# Altium integrated library Infineon_Microcontroller.IntLib: 721 symbols (part 24 of 66)
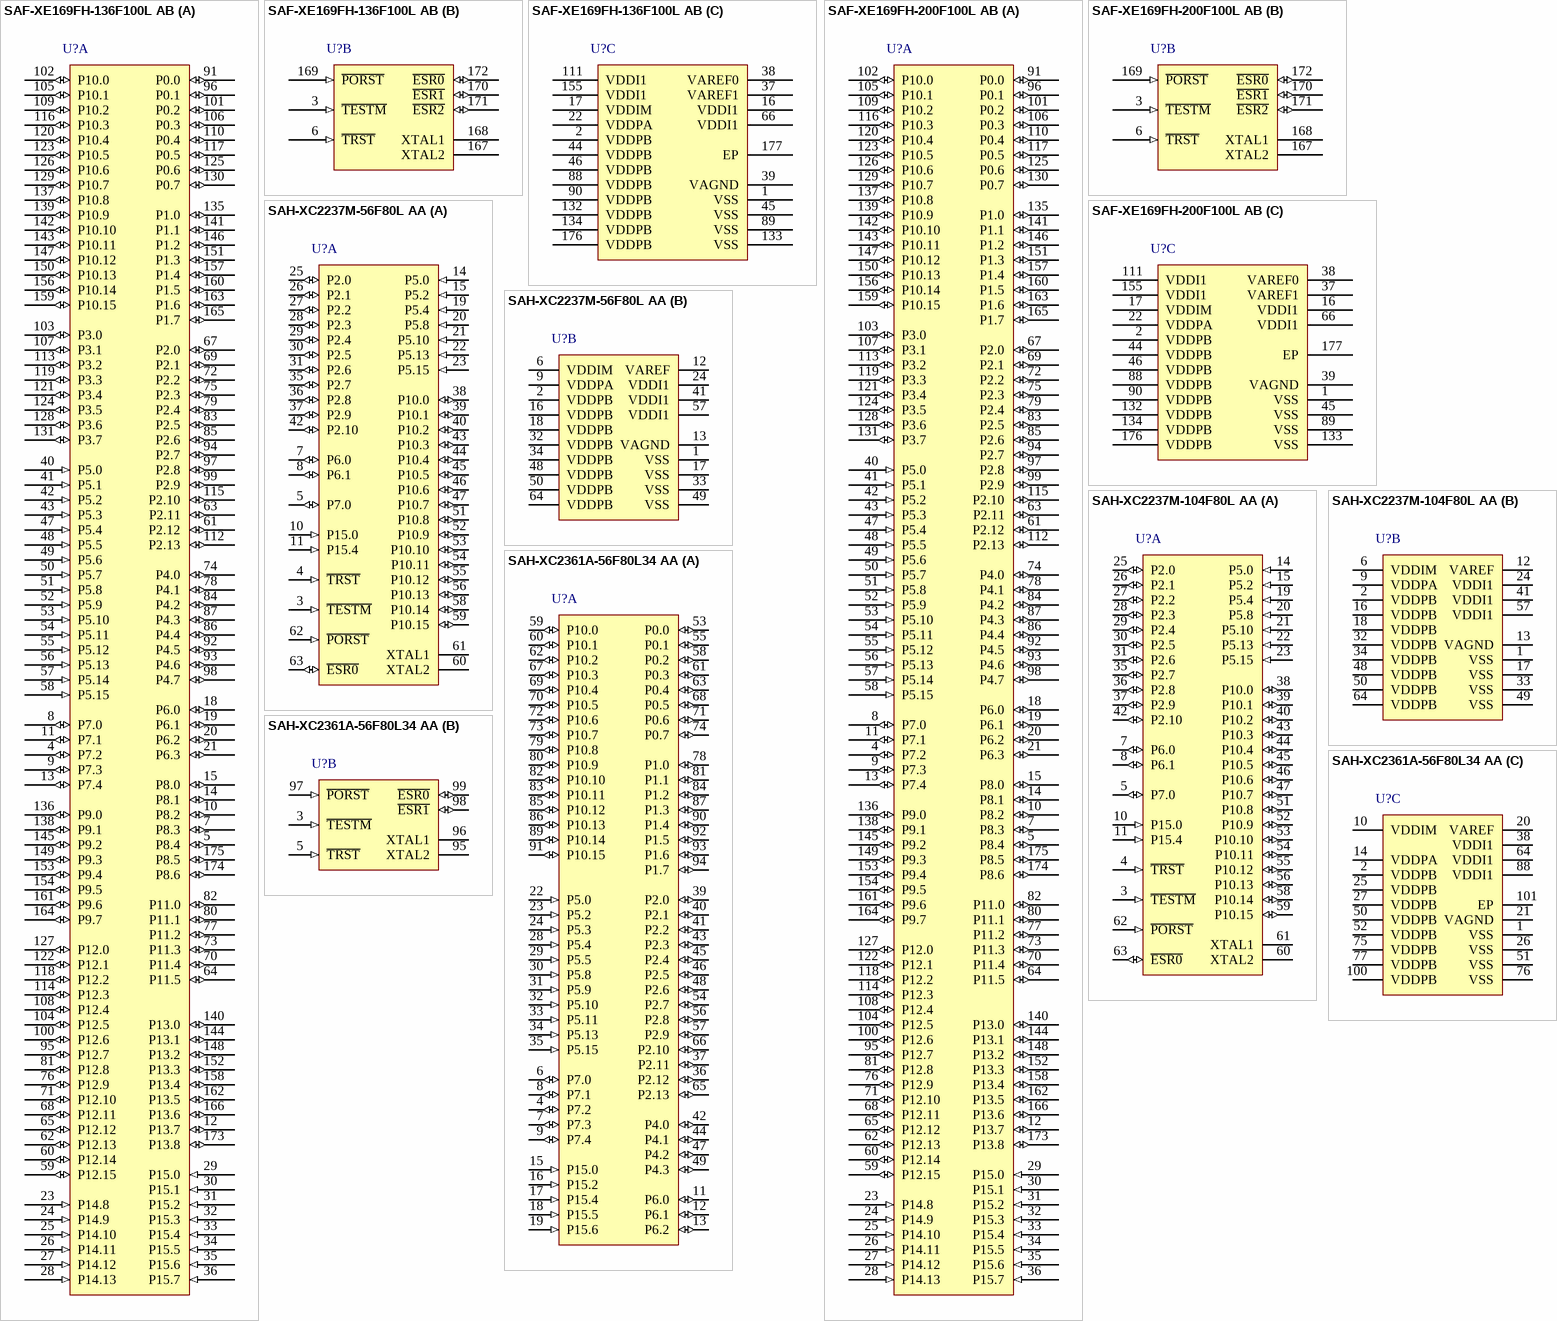
[diagram p141: symbols SAF-XE169FH-136F100L AB to SAH-XC2361A-56F80L34 AA]

## SAH-XC2237M-104F80L AA
designator U?
80 MHz XC2200 MCU with 832 KByte Program Memory, 50 KByte SRAM, 3 V, 5.5 V, -40 to 110 degC, PG-LQFP-64, Reel, Green; Manufacturer: Infineon; PartNumber: SAH-XC2237M-104F80L AA; A / D input lines (incl. FADC): 9; CAN Nodes: 6; Digital I/O Lines: 38; DMA Channels: 8; DSP functionality (e.g MDU/MAC): TRUE; FlexRay TM: FALSE; Instruction width [bits]: 16/32; Max Clock Frequency: 80 MHz; Number of ADC Modules: 2; Power Modes: 3; Timed I/O Pins (PWM-Ch,CAPCOM): up to 22; Timer / Counter: 17; Type of Memory: Flash; Type of Serial I/O Interfaces: SPI(6), LIN, UART, I2C, I2S; DatasheetVersion: Rev. 2.1; PackageVersion: Jun-08; PackageReference: PG-LQFP-64-13; PackageDescription: 64-Pin Plastic (Green) Low Profile Quad Flat Package, Body 10 x 10 mm, Pitch 0.5 mm; Supplier 1: Mouser; Supplier Part Number 1: 726-XC2237M104F80LAA; Supplier 2: Digi-Key; Supplier Part Number 2: SAH-XC2237M-104F80L AA-ND; E2PROM Emulation (Data-Flash): TRUE; External Bus interface: TRUE; Green: TRUE; Halogen-free: TRUE; I/O Operation Voltages: 3 V, 5.5 V; On-chip clock generation: TRUE; On-chip Voltage Regulator: TRUE; Oscillator Watchdog: TRUE; Packing: Reel; Program Memory: 832 KByte; Real Time Clock (RTC): TRUE; Serial I/O Interfaces: 6; SRAM (incl. Cache): 50 KByte; Watchdog Timer: TRUE; Mounting Technology: Surface Mount; ComponentLink1Description: Manufacturer URL; ComponentLink1URL: http://www.infineon.com/; ComponentLink2Description: Datasheet; ComponentLink2URL: http://www.infineon.com/dgdl/xc223xm_ds_v2.1_2011_07.pdf?folderId=db3a3043132679fb01133eb909a307c3&fileId=db3a304320d39d590120f67e4b706a36; ComponentLink3Description: Package Specification; ComponentLink3URL: http://www.infineon.com/dgdl/PG-LQFP-64-4%2C-5%2C-13-Package_Overview.pdf?folderId=db3a30431a5c32f2011a8ca6115b5cf2&fileId=db3a30431a5c32f2011a8cb1baf95d11
footprint INF-PG-LQFP-64-13_N (QFP, 64-Leads, Body 10x10mm, Pitch 0.5mm, IPC Medium Density)
footprint INF-PG-LQFP-64-13_L (QFP, 64-Leads, Body 10x10mm, Pitch 0.5mm, IPC High Density)
footprint INF-PG-LQFP-64-13_M (QFP, 64-Leads, Body 10x10mm, Pitch 0.5mm, IPC Low Density)
part A pins: 3 ~{TESTM} (in) "Testmode Enable", 4 ~{TRST} (in) "Test-System Reset Input", 5 P7.0 (io), 7 P6.0 (io), 8 P6.1 (io), 10 P15.0 (in), 11 P15.4 (in), 14 P5.0 (in), 15 P5.2 (in), 19 P5.4 (in), 20 P5.8 (in), 21 P5.10 (in), 22 P5.13 (in), 23 P5.15 (in), 25 P2.0 (io), 26 P2.1 (io), 27 P2.2 (io), 28 P2.3 (io), 29 P2.4 (io), 30 P2.5 (io), 31 P2.6 (io), 35 P2.7 (io), 36 P2.8 (io), 37 P2.9 (io), 38 P10.0 (io), 39 P10.1 (io), 40 P10.2 (io), 42 P2.10 (io), 43 P10.3 (io), 44 P10.4 (io), 45 P10.5 (io), 46 P10.6 (io), 47 P10.7 (io), 51 P10.8 (io), 52 P10.9 (io), 53 P10.10 (io), 54 P10.11 (io), 55 P10.12 (io), 56 P10.13 (io), 58 P10.14 (io), 59 P10.15 (io), 60 XTAL2 "Crystal Oscillator Amplifier Output", 61 XTAL1, 62 ~{PORST} (in) "Power On Reset Input", 63 ~{ESR0} (io)
part B pins: 1 VSS (power) "Digital Ground", 2 VDDPB (power) "Digital Pad Supply Voltage for Domain B", 6 VDDIM (power) "Digital Core Supply Voltage for Domain M", 9 VDDPA (power) "Digital Pad Supply Voltage for Domain A", 12 VAREF (power) "Reference Voltage for A/D Converters ADC0/1", 13 VAGND (power) "Reference Ground for A/D Converters ADC0/1", 16 VDDPB (power) "Digital Pad Supply Voltage for Domain B", 17 VSS (power) "Digital Ground", 18 VDDPB (power) "Digital Pad Supply Voltage for Domain B", 24 VDDI1 (power) "Digital Core Supply Voltage for Domain 1", 32 VDDPB (power) "Digital Pad Supply Voltage for Domain B", 33 VSS (power) "Digital Ground", 34 VDDPB (power) "Digital Pad Supply Voltage for Domain B", 41 VDDI1 (power) "Digital Core Supply Voltage for Domain 1", 48 VDDPB (power) "Digital Pad Supply Voltage for Domain B", 49 VSS (power) "Digital Ground", 50 VDDPB (power) "Digital Pad Supply Voltage for Domain B", 57 VDDI1 (power) "Digital Core Supply Voltage for Domain 1", 64 VDDPB (power) "Digital Pad Supply Voltage for Domain B"

## SAH-XC2361A-56F80L34 AA
designator U?
80 MHz XC2300 MCU with 448 KByte Program Memory, 34 KByte SRAM, 3 V, 5.5 V, -40 to 110 degC, PG-LQFP-100, Reel, Green; Manufacturer: Infineon; PartNumber: SAH-XC2361A-56F80L34 AA; A / D input lines (incl. FADC): 16; CAN Nodes: 2; Digital I/O Lines: 76; DMA Channels: 8; DSP functionality (e.g MDU/MAC): TRUE; FlexRay TM: FALSE; Instruction width [bits]: 16/32; Max Clock Frequency: 80 MHz; Serial I/O Interfaces: 6; Timed I/O Pins (PWM-Ch,CAPCOM): 24; Timer / Counter: 17; Type of Memory: Flash; Type of Serial I/O Interfaces: SPI(1), LIN, UART, I2C, I2S; DatasheetVersion: Rev. 2.11; PackageVersion: Mar-13; PackageReference: PG-LQFP-100-8; PackageDescription: 100-Pin Plastic (Green) Low Profile Quad Flat Package, Body 14 x 14 mm, Pitch 0.5 mm; E2PROM Emulation (Data-Flash): TRUE; External Bus interface: TRUE; Green: TRUE; Halogen-free: TRUE; I/O Operation Voltages: 3 V, 5.5 V; LIN BSL loader (for fast Flash programming): TRUE; Number of ADC Modules: 2; On-chip clock generation: TRUE; On-chip Voltage Regulator: TRUE; Oscillator Watchdog: TRUE; Packing: Reel; Power Modes: 2; Program Memory: 448 KByte; Real Time Clock (RTC): TRUE; SRAM (incl. Cache): 34 KByte; Watchdog Timer: TRUE; Mounting Technology: Surface Mount; ComponentLink1Description: Manufacturer URL; ComponentLink1URL: http://www.infineon.com/; ComponentLink2Description: Datasheet; ComponentLink2URL: http://www.infineon.com/dgdl/xc236xa_ds_v2+11_2011_11.pdf?folderId=db3a304412b407950112b409d4b00386&fileId=db3a3043353fdc160135582d1eee7bd4; ComponentLink3Description: Package Specification; ComponentLink3URL: http://www.infineon.com/dgdl/PG-LQFP-100-3%2C-4%2C-8%2C-11-Package_Overview.pdf?folderId=db3a30431a5c32f2011a90c5ac475987&fileId=db3a30431a5c32f2011a9129fcd359d1
footprint INF-PG-LQFP-100-8-6200X6200TP_N (QFP, 100-Leads, Body 14x14mm, Pitch 0.5mm, Thermal Pad 6.2x6.2mm, IPC Medium Density)
footprint INF-PG-LQFP-100-8-6200X6200TP_L (QFP, 100-Leads, Body 14x14mm, Pitch 0.5mm, Thermal Pad 6.2x6.2mm, IPC High Density)
footprint INF-PG-LQFP-100-8-6200X6200TP_M (QFP, 100-Leads, Body 14x14mm, Pitch 0.5mm, Thermal Pad 6.2x6.2mm, IPC Low Density)
part A pins: 4 P7.2 (io), 6 P7.0 (io), 7 P7.3 (io), 8 P7.1 (io), 9 P7.4 (io), 11 P6.0 (io), 12 P6.1 (io), 13 P6.2 (io), 15 P15.0 (in), 16 P15.2 (in), 17 P15.4 (in), 18 P15.5 (in), 19 P15.6 (in), 22 P5.0 (in), 23 P5.2 (in), 24 P5.3 (in), 28 P5.4 (in), 29 P5.5 (in), 30 P5.8 (in), 31 P5.9 (in), 32 P5.10 (in), 33 P5.11 (in), 34 P5.13 (in), 35 P5.15 (in), 36 P2.12 (io), 37 P2.11 (io), 39 P2.0 (io), 40 P2.1 (io), 41 P2.2 (io), 42 P4.0 (io), 43 P2.3 (io), 44 P4.1 (io), 45 P2.4 (io), 46 P2.5 (io), 47 P4.2 (io), 48 P2.6 (io), 49 P4.3 (io), 53 P0.0 (io), 54 P2.7 (io), 55 P0.1 (io), 56 P2.8 (io), 57 P2.9 (io), 58 P0.2 (io), 59 P10.0 (io), 60 P10.1 (io), 61 P0.3 (io), 62 P10.2 (io), 63 P0.4 (io), 65 P2.13 (io), 66 P2.10 (io), 67 P10.3 (io), 68 P0.5 (io), 69 P10.4 (io), 70 P10.5 (io), 71 P0.6 (io), 72 P10.6 (io), 73 P10.7 (io), 74 P0.7 (io), 78 P1.0 (io), 79 P10.8 (io), 80 P10.9 (io), 81 P1.1 (io), 82 P10.10 (io), 83 P10.11 (io), 84 P1.2 (io), 85 P10.12 (io), 86 P10.13 (io), 87 P1.3 (io), 89 P10.14 (io), 90 P1.4 (io), 91 P10.15 (io), 92 P1.5 (io), 93 P1.6 (io), 94 P1.7 (io)
part B pins: 3 ~{TESTM} (in) "Testmode Enable", 5 ~{TRST} (in) "Test-System Reset Input", 95 XTAL2 "Crystal Oscillator Amplifier Output", 96 XTAL1, 97 ~{PORST} (in) "Power On Reset Input", 98 ~{ESR1} (io), 99 ~{ESR0} (io)
part C pins: 1 VSS (power) "Digital Ground.", 2 VDDPB (power) "Digital Pad Supply Voltage for Domain B.", 10 VDDIM (power) "Digital Core Supply Voltage for Domain M", 14 VDDPA (power) "Digital Pad Supply Voltage for Domain A.", 20 VAREF (power) "Reference Voltage for A/D Converters ADC0/1", 21 VAGND (power) "Reference Ground for A/D Converters ADC0/1", 25 VDDPB (power) "Digital Pad Supply Voltage for Domain B.", 26 VSS (power) "Digital Ground.", 27 VDDPB (power) "Digital Pad Supply Voltage for Domain B.", 38 VDDI1 (power) "Digital Core Supply Voltage for Domain 1", 50 VDDPB (power) "Digital Pad Supply Voltage for Domain B.", 51 VSS (power) "Digital Ground.", 52 VDDPB (power) "Digital Pad Supply Voltage for Domain B.", 64 VDDI1 (power) "Digital Core Supply Voltage for Domain 1", 75 VDDPB (power) "Digital Pad Supply Voltage for Domain B.", 76 VSS (power) "Digital Ground.", 77 VDDPB (power) "Digital Pad Supply Voltage for Domain B.", 88 VDDI1 (power) "Digital Core Supply Voltage for Domain 1", 100 VDDPB (power) "Digital Pad Supply Voltage for Domain B.", 101 EP (power)

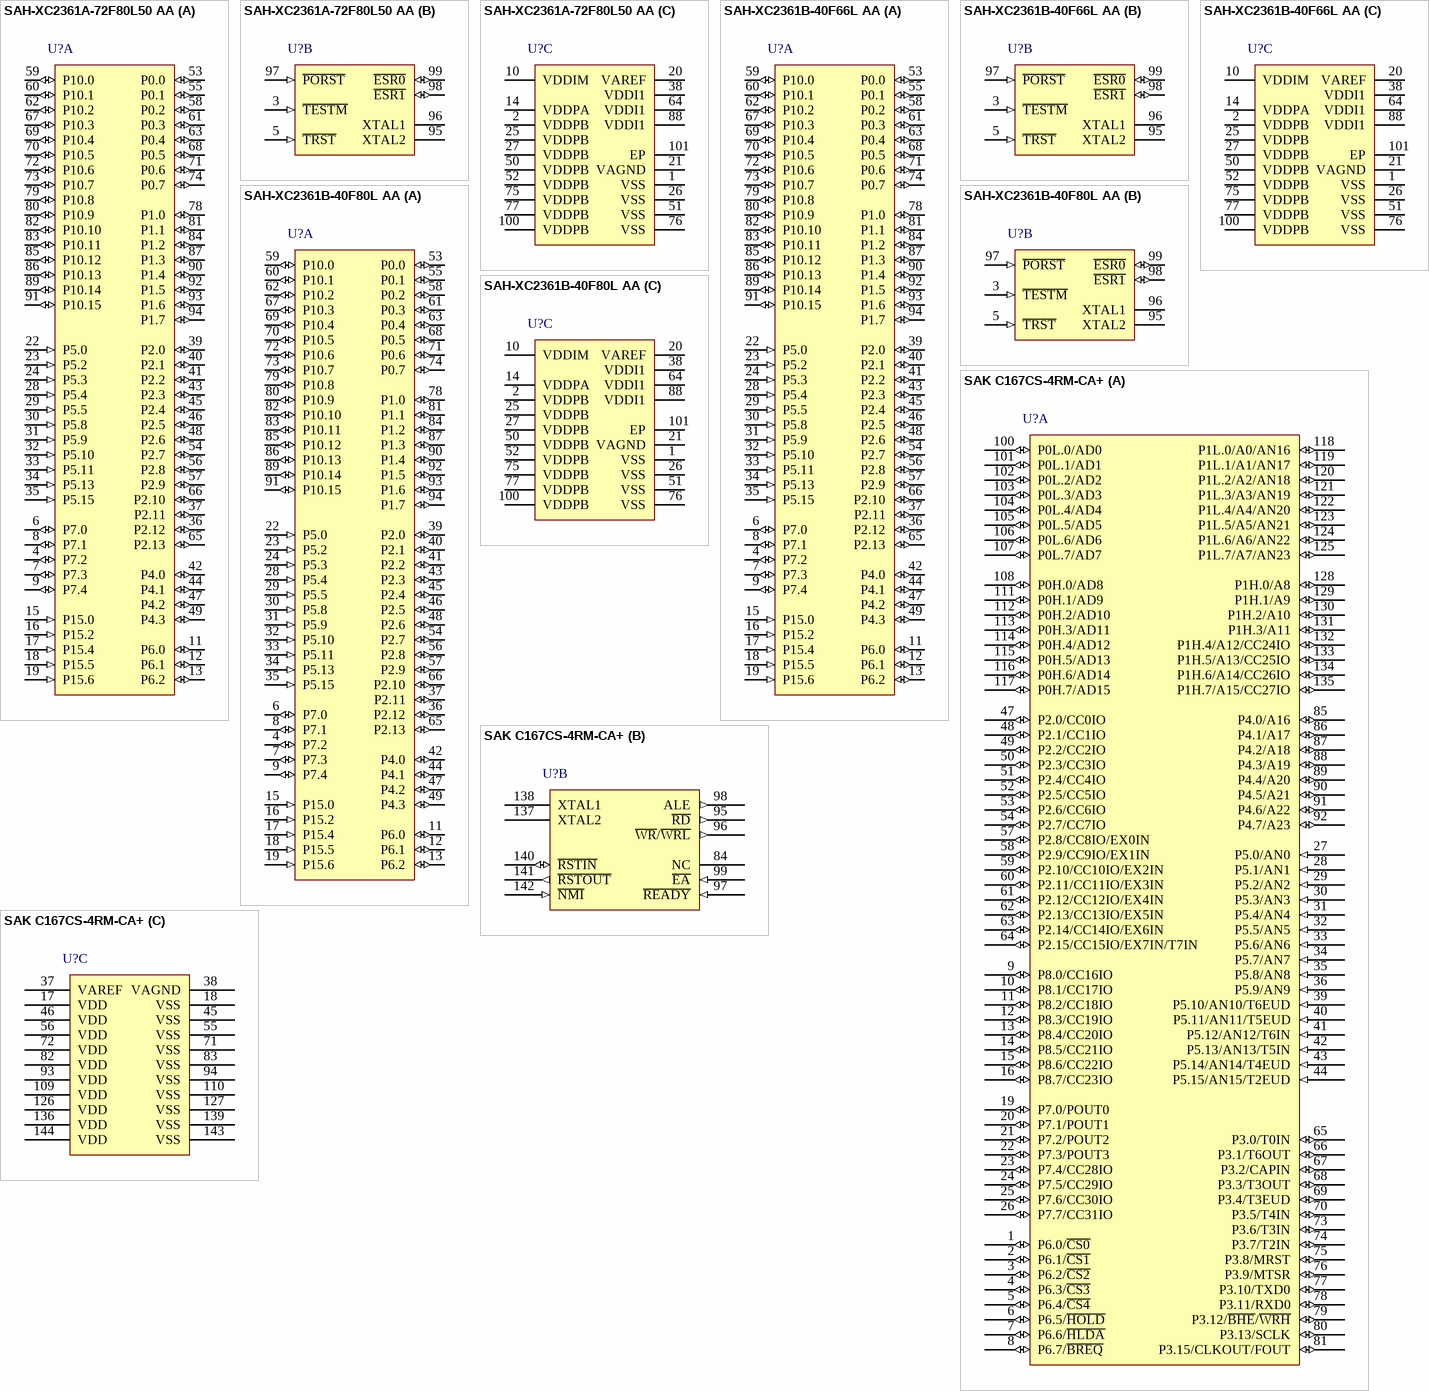
[diagram p40: symbols SAH-XC2361A-72F80L50 AA to SAK C167CS-4RM-CA+]

## SAH-XC2361A-72F80L50 AA
designator U?
80 MHz XC2300 MCU with 576 KByte Program Memory, 50 KByte SRAM, 3 V, 5.5 V, -40 to 110 degC, PG-LQFP-100, Reel, Green; Manufacturer: Infineon; PartNumber: SAH-XC2361A-72F80L50 AA; A / D input lines (incl. FADC): 16; CAN Nodes: 2; Digital I/O Lines: 76; DMA Channels: 8; DSP functionality (e.g MDU/MAC): TRUE; FlexRay TM: FALSE; Instruction width [bits]: 16/32; Max Clock Frequency: 80 MHz; Serial I/O Interfaces: 6; Timed I/O Pins (PWM-Ch,CAPCOM): 24; Timer / Counter: 17; Type of Memory: Flash; Type of Serial I/O Interfaces: SPI(1), LIN, UART, I2C, I2S; DatasheetVersion: Rev. 2.11; PackageVersion: Mar-13; PackageReference: PG-LQFP-100-8; PackageDescription: 100-Pin Plastic (Green) Low Profile Quad Flat Package, Body 14 x 14 mm, Pitch 0.5 mm; E2PROM Emulation (Data-Flash): TRUE; External Bus interface: TRUE; Green: TRUE; Halogen-free: TRUE; I/O Operation Voltages: 3 V, 5.5 V; LIN BSL loader (for fast Flash programming): TRUE; Number of ADC Modules: 2; On-chip clock generation: TRUE; On-chip Voltage Regulator: TRUE; Oscillator Watchdog: TRUE; Packing: Reel; Power Modes: 2; Program Memory: 576 KByte; Real Time Clock (RTC): TRUE; SRAM (incl. Cache): 50 KByte; Watchdog Timer: TRUE; Mounting Technology: Surface Mount; ComponentLink1Description: Manufacturer URL; ComponentLink1URL: http://www.infineon.com/; ComponentLink2Description: Datasheet; ComponentLink2URL: http://www.infineon.com/dgdl/xc236xa_ds_v2+11_2011_11.pdf?folderId=db3a304412b407950112b409d4b00386&fileId=db3a3043353fdc160135582d1eee7bd4; ComponentLink3Description: Package Specification; ComponentLink3URL: http://www.infineon.com/dgdl/PG-LQFP-100-3%2C-4%2C-8%2C-11-Package_Overview.pdf?folderId=db3a30431a5c32f2011a90c5ac475987&fileId=db3a30431a5c32f2011a9129fcd359d1
footprint INF-PG-LQFP-100-8-6200X6200TP_N (QFP, 100-Leads, Body 14x14mm, Pitch 0.5mm, Thermal Pad 6.2x6.2mm, IPC Medium Density)
footprint INF-PG-LQFP-100-8-6200X6200TP_L (QFP, 100-Leads, Body 14x14mm, Pitch 0.5mm, Thermal Pad 6.2x6.2mm, IPC High Density)
footprint INF-PG-LQFP-100-8-6200X6200TP_M (QFP, 100-Leads, Body 14x14mm, Pitch 0.5mm, Thermal Pad 6.2x6.2mm, IPC Low Density)
part A pins: 4 P7.2 (io), 6 P7.0 (io), 7 P7.3 (io), 8 P7.1 (io), 9 P7.4 (io), 11 P6.0 (io), 12 P6.1 (io), 13 P6.2 (io), 15 P15.0 (in), 16 P15.2 (in), 17 P15.4 (in), 18 P15.5 (in), 19 P15.6 (in), 22 P5.0 (in), 23 P5.2 (in), 24 P5.3 (in), 28 P5.4 (in), 29 P5.5 (in), 30 P5.8 (in), 31 P5.9 (in), 32 P5.10 (in), 33 P5.11 (in), 34 P5.13 (in), 35 P5.15 (in), 36 P2.12 (io), 37 P2.11 (io), 39 P2.0 (io), 40 P2.1 (io), 41 P2.2 (io), 42 P4.0 (io), 43 P2.3 (io), 44 P4.1 (io), 45 P2.4 (io), 46 P2.5 (io), 47 P4.2 (io), 48 P2.6 (io), 49 P4.3 (io), 53 P0.0 (io), 54 P2.7 (io), 55 P0.1 (io), 56 P2.8 (io), 57 P2.9 (io), 58 P0.2 (io), 59 P10.0 (io), 60 P10.1 (io), 61 P0.3 (io), 62 P10.2 (io), 63 P0.4 (io), 65 P2.13 (io), 66 P2.10 (io), 67 P10.3 (io), 68 P0.5 (io), 69 P10.4 (io), 70 P10.5 (io), 71 P0.6 (io), 72 P10.6 (io), 73 P10.7 (io), 74 P0.7 (io), 78 P1.0 (io), 79 P10.8 (io), 80 P10.9 (io), 81 P1.1 (io), 82 P10.10 (io), 83 P10.11 (io), 84 P1.2 (io), 85 P10.12 (io), 86 P10.13 (io), 87 P1.3 (io), 89 P10.14 (io), 90 P1.4 (io), 91 P10.15 (io), 92 P1.5 (io), 93 P1.6 (io), 94 P1.7 (io)
part B pins: 3 ~{TESTM} (in) "Testmode Enable", 5 ~{TRST} (in) "Test-System Reset Input", 95 XTAL2 "Crystal Oscillator Amplifier Output", 96 XTAL1, 97 ~{PORST} (in) "Power On Reset Input", 98 ~{ESR1} (io), 99 ~{ESR0} (io)
part C pins: 1 VSS (power) "Digital Ground.", 2 VDDPB (power) "Digital Pad Supply Voltage for Domain B.", 10 VDDIM (power) "Digital Core Supply Voltage for Domain M", 14 VDDPA (power) "Digital Pad Supply Voltage for Domain A.", 20 VAREF (power) "Reference Voltage for A/D Converters ADC0/1", 21 VAGND (power) "Reference Ground for A/D Converters ADC0/1", 25 VDDPB (power) "Digital Pad Supply Voltage for Domain B.", 26 VSS (power) "Digital Ground.", 27 VDDPB (power) "Digital Pad Supply Voltage for Domain B.", 38 VDDI1 (power) "Digital Core Supply Voltage for Domain 1", 50 VDDPB (power) "Digital Pad Supply Voltage for Domain B.", 51 VSS (power) "Digital Ground.", 52 VDDPB (power) "Digital Pad Supply Voltage for Domain B.", 64 VDDI1 (power) "Digital Core Supply Voltage for Domain 1", 75 VDDPB (power) "Digital Pad Supply Voltage for Domain B.", 76 VSS (power) "Digital Ground.", 77 VDDPB (power) "Digital Pad Supply Voltage for Domain B.", 88 VDDI1 (power) "Digital Core Supply Voltage for Domain 1", 100 VDDPB (power) "Digital Pad Supply Voltage for Domain B.", 101 EP (power)

## SAH-XC2361B-40F66L AA
designator U?
66 MHz XC2300 MCU with 320 KByte Program Memory, 34 KByte SRAM, 3 V, 5.5 V, -40 to 105 degC, PG-LQFP-100, Reel, Green; Manufacturer: Infineon; PartNumber: SAH-XC2361B-40F66L AA; A / D input lines (incl. FADC): 16; CAN Nodes: 2; Digital I/O Lines: 76; DMA Channels: 8; DSP functionality (e.g MDU/MAC): TRUE; FlexRay TM: FALSE; Instruction width [bits]: 16/32; Max Clock Frequency: 66 MHz; Serial I/O Interfaces: 6; Timed I/O Pins (PWM-Ch,CAPCOM): 24; Timer / Counter: 13; Type of Memory: Flash; Type of Serial I/O Interfaces: SPI(1), LIN, UART, I2C, I2S; DatasheetVersion: Rev. 1.4; PackageVersion: Mar-13; PackageReference: PG-LQFP-100-8; PackageDescription: 100-Pin Plastic (Green) Low Profile Quad Flat Package, Body 14 x 14 mm, Pitch 0.5 mm; Supplier 1: Mouser; Supplier Part Number 1: 726-SAHXC2361B40F66L; E2PROM Emulation (Data-Flash): TRUE; External Bus interface: TRUE; Green: TRUE; Halogen-free: TRUE; I/O Operation Voltages: 3 V, 5.5 V; LIN BSL loader (for fast Flash programming): TRUE; Number of ADC Modules: 2; On-chip clock generation: TRUE; On-chip Voltage Regulator: TRUE; Oscillator Watchdog: TRUE; Packing: Reel; Power Modes: 2; Program Memory: 320 KByte; Real Time Clock (RTC): TRUE; SRAM (incl. Cache): 34 KByte; Watchdog Timer: TRUE; Mounting Technology: Surface Mount; ComponentLink1Description: Manufacturer URL; ComponentLink1URL: http://www.infineon.com/; ComponentLink2Description: Datasheet; ComponentLink2URL: http://www.infineon.com/dgdl/xc236xb_ds_v1_3_2011_07.pdf?folderId=db3a30431375fb1a0113864e0cc701b6&fileId=db3a304324fc7f9a01251206dca11981; ComponentLink3Description: Package Specification; ComponentLink3URL: http://www.infineon.com/dgdl/PG-LQFP-100-3%2C-4%2C-8%2C-11-Package_Overview.pdf?folderId=db3a30431a5c32f2011a90c5ac475987&fileId=db3a30431a5c32f2011a9129fcd359d1
footprint INF-PG-LQFP-100-8-6200X6200TP_N (QFP, 100-Leads, Body 14x14mm, Pitch 0.5mm, Thermal Pad 6.2x6.2mm, IPC Medium Density)
footprint INF-PG-LQFP-100-8-6200X6200TP_L (QFP, 100-Leads, Body 14x14mm, Pitch 0.5mm, Thermal Pad 6.2x6.2mm, IPC High Density)
footprint INF-PG-LQFP-100-8-6200X6200TP_M (QFP, 100-Leads, Body 14x14mm, Pitch 0.5mm, Thermal Pad 6.2x6.2mm, IPC Low Density)
part A pins: 4 P7.2 (io), 6 P7.0 (io), 7 P7.3 (io), 8 P7.1 (io), 9 P7.4 (io), 11 P6.0 (io), 12 P6.1 (io), 13 P6.2 (io), 15 P15.0 (in), 16 P15.2 (in), 17 P15.4 (in), 18 P15.5 (in), 19 P15.6 (in), 22 P5.0 (in), 23 P5.2 (in), 24 P5.3 (in), 28 P5.4 (in), 29 P5.5 (in), 30 P5.8 (in), 31 P5.9 (in), 32 P5.10 (in), 33 P5.11 (in), 34 P5.13 (in), 35 P5.15 (in), 36 P2.12 (io), 37 P2.11 (io), 39 P2.0 (io), 40 P2.1 (io), 41 P2.2 (io), 42 P4.0 (io), 43 P2.3 (io), 44 P4.1 (io), 45 P2.4 (io), 46 P2.5 (io), 47 P4.2 (io), 48 P2.6 (io), 49 P4.3 (io), 53 P0.0 (io), 54 P2.7 (io), 55 P0.1 (io), 56 P2.8 (io), 57 P2.9 (io), 58 P0.2 (io), 59 P10.0 (io), 60 P10.1 (io), 61 P0.3 (io), 62 P10.2 (io), 63 P0.4 (io), 65 P2.13 (io), 66 P2.10 (io), 67 P10.3 (io), 68 P0.5 (io), 69 P10.4 (io), 70 P10.5 (io), 71 P0.6 (io), 72 P10.6 (io), 73 P10.7 (io), 74 P0.7 (io), 78 P1.0 (io), 79 P10.8 (io), 80 P10.9 (io), 81 P1.1 (io), 82 P10.10 (io), 83 P10.11 (io), 84 P1.2 (io), 85 P10.12 (io), 86 P10.13 (io), 87 P1.3 (io), 89 P10.14 (io), 90 P1.4 (io), 91 P10.15 (io), 92 P1.5 (io), 93 P1.6 (io), 94 P1.7 (io)
part B pins: 3 ~{TESTM} (in) "Testmode Enable", 5 ~{TRST} (in) "Test-System Reset Input", 95 XTAL2 "Crystal Oscillator Amplifier Output", 96 XTAL1, 97 ~{PORST} (in) "Power On Reset Input", 98 ~{ESR1} (io), 99 ~{ESR0} (io)
part C pins: 1 VSS (power) "Digital Ground.", 2 VDDPB (power) "Digital Pad Supply Voltage for Domain B.", 10 VDDIM (power) "Digital Core Supply Voltage for Domain M", 14 VDDPA (power) "Digital Pad Supply Voltage for Domain A.", 20 VAREF (power) "Reference Voltage for A/D Converters ADC0/1", 21 VAGND (power) "Reference Ground for A/D Converters ADC0/1", 25 VDDPB (power) "Digital Pad Supply Voltage for Domain B.", 26 VSS (power) "Digital Ground.", 27 VDDPB (power) "Digital Pad Supply Voltage for Domain B.", 38 VDDI1 (power) "Digital Core Supply Voltage for Domain 1", 50 VDDPB (power) "Digital Pad Supply Voltage for Domain B.", 51 VSS (power) "Digital Ground.", 52 VDDPB (power) "Digital Pad Supply Voltage for Domain B.", 64 VDDI1 (power) "Digital Core Supply Voltage for Domain 1", 75 VDDPB (power) "Digital Pad Supply Voltage for Domain B.", 76 VSS (power) "Digital Ground.", 77 VDDPB (power) "Digital Pad Supply Voltage for Domain B.", 88 VDDI1 (power) "Digital Core Supply Voltage for Domain 1", 100 VDDPB (power) "Digital Pad Supply Voltage for Domain B.", 101 EP (power)

## SAH-XC2361B-40F80L AA
designator U?
80 MHz XC2300 MCU with 320 KByte Program Memory, 34 KByte SRAM, 3 V, 5.5 V, -40 to 110 degC, PG-LQFP-100, Reel, Green; Manufacturer: Infineon; PartNumber: SAH-XC2361B-40F80L AA; A / D input lines (incl. FADC): 16; CAN Nodes: 2; Digital I/O Lines: 76; DMA Channels: 8; DSP functionality (e.g MDU/MAC): TRUE; FlexRay TM: FALSE; Instruction width [bits]: 16/32; Max Clock Frequency: 80 MHz; Serial I/O Interfaces: 6; Timed I/O Pins (PWM-Ch,CAPCOM): 24; Timer / Counter: 13; Type of Memory: Flash; Type of Serial I/O Interfaces: SPI(1), LIN, UART, I2C, I2S; DatasheetVersion: Rev. 1.4; PackageVersion: Mar-13; PackageReference: PG-LQFP-100-8; PackageDescription: 100-Pin Plastic (Green) Low Profile Quad Flat Package, Body 14 x 14 mm, Pitch 0.5 mm; Supplier 1: Mouser; Supplier Part Number 1: 726-SAHXC2361B40F80L; Supplier 2: Digi-Key; Supplier Part Number 2: SAH-XC2361B-40F80L AA-ND; E2PROM Emulation (Data-Flash): TRUE; External Bus interface: TRUE; Green: TRUE; Halogen-free: TRUE; I/O Operation Voltages: 3 V, 5.5 V; LIN BSL loader (for fast Flash programming): TRUE; Number of ADC Modules: 2; On-chip clock generation: TRUE; On-chip Voltage Regulator: TRUE; Oscillator Watchdog: TRUE; Packing: Reel; Power Modes: 2; Program Memory: 320 KByte; Real Time Clock (RTC): TRUE; SRAM (incl. Cache): 34 KByte; Watchdog Timer: TRUE; Mounting Technology: Surface Mount; ComponentLink1Description: Manufacturer URL; ComponentLink1URL: http://www.infineon.com/; ComponentLink2Description: Datasheet; ComponentLink2URL: http://www.infineon.com/dgdl/xc236xb_ds_v1_3_2011_07.pdf?folderId=db3a30431375fb1a0113864e0cc701b6&fileId=db3a304324fc7f9a01251206dca11981; ComponentLink3Description: Package Specification; ComponentLink3URL: http://www.infineon.com/dgdl/PG-LQFP-100-3%2C-4%2C-8%2C-11-Package_Overview.pdf?folderId=db3a30431a5c32f2011a90c5ac475987&fileId=db3a30431a5c32f2011a9129fcd359d1
footprint INF-PG-LQFP-100-8-6200X6200TP_N (QFP, 100-Leads, Body 14x14mm, Pitch 0.5mm, Thermal Pad 6.2x6.2mm, IPC Medium Density)
footprint INF-PG-LQFP-100-8-6200X6200TP_L (QFP, 100-Leads, Body 14x14mm, Pitch 0.5mm, Thermal Pad 6.2x6.2mm, IPC High Density)
footprint INF-PG-LQFP-100-8-6200X6200TP_M (QFP, 100-Leads, Body 14x14mm, Pitch 0.5mm, Thermal Pad 6.2x6.2mm, IPC Low Density)
part A pins: 4 P7.2 (io), 6 P7.0 (io), 7 P7.3 (io), 8 P7.1 (io), 9 P7.4 (io), 11 P6.0 (io), 12 P6.1 (io), 13 P6.2 (io), 15 P15.0 (in), 16 P15.2 (in), 17 P15.4 (in), 18 P15.5 (in), 19 P15.6 (in), 22 P5.0 (in), 23 P5.2 (in), 24 P5.3 (in), 28 P5.4 (in), 29 P5.5 (in), 30 P5.8 (in), 31 P5.9 (in), 32 P5.10 (in), 33 P5.11 (in), 34 P5.13 (in), 35 P5.15 (in), 36 P2.12 (io), 37 P2.11 (io), 39 P2.0 (io), 40 P2.1 (io), 41 P2.2 (io), 42 P4.0 (io), 43 P2.3 (io), 44 P4.1 (io), 45 P2.4 (io), 46 P2.5 (io), 47 P4.2 (io), 48 P2.6 (io), 49 P4.3 (io), 53 P0.0 (io), 54 P2.7 (io), 55 P0.1 (io), 56 P2.8 (io), 57 P2.9 (io), 58 P0.2 (io), 59 P10.0 (io), 60 P10.1 (io), 61 P0.3 (io), 62 P10.2 (io), 63 P0.4 (io), 65 P2.13 (io), 66 P2.10 (io), 67 P10.3 (io), 68 P0.5 (io), 69 P10.4 (io), 70 P10.5 (io), 71 P0.6 (io), 72 P10.6 (io), 73 P10.7 (io), 74 P0.7 (io), 78 P1.0 (io), 79 P10.8 (io), 80 P10.9 (io), 81 P1.1 (io), 82 P10.10 (io), 83 P10.11 (io), 84 P1.2 (io), 85 P10.12 (io), 86 P10.13 (io), 87 P1.3 (io), 89 P10.14 (io), 90 P1.4 (io), 91 P10.15 (io), 92 P1.5 (io), 93 P1.6 (io), 94 P1.7 (io)
part B pins: 3 ~{TESTM} (in) "Testmode Enable", 5 ~{TRST} (in) "Test-System Reset Input", 95 XTAL2 "Crystal Oscillator Amplifier Output", 96 XTAL1, 97 ~{PORST} (in) "Power On Reset Input", 98 ~{ESR1} (io), 99 ~{ESR0} (io)
part C pins: 1 VSS (power) "Digital Ground.", 2 VDDPB (power) "Digital Pad Supply Voltage for Domain B.", 10 VDDIM (power) "Digital Core Supply Voltage for Domain M", 14 VDDPA (power) "Digital Pad Supply Voltage for Domain A.", 20 VAREF (power) "Reference Voltage for A/D Converters ADC0/1", 21 VAGND (power) "Reference Ground for A/D Converters ADC0/1", 25 VDDPB (power) "Digital Pad Supply Voltage for Domain B.", 26 VSS (power) "Digital Ground.", 27 VDDPB (power) "Digital Pad Supply Voltage for Domain B.", 38 VDDI1 (power) "Digital Core Supply Voltage for Domain 1", 50 VDDPB (power) "Digital Pad Supply Voltage for Domain B.", 51 VSS (power) "Digital Ground.", 52 VDDPB (power) "Digital Pad Supply Voltage for Domain B.", 64 VDDI1 (power) "Digital Core Supply Voltage for Domain 1", 75 VDDPB (power) "Digital Pad Supply Voltage for Domain B.", 76 VSS (power) "Digital Ground.", 77 VDDPB (power) "Digital Pad Supply Voltage for Domain B.", 88 VDDI1 (power) "Digital Core Supply Voltage for Domain 1", 100 VDDPB (power) "Digital Pad Supply Voltage for Domain B.", 101 EP (power)

## SAK C167CS-4RM-CA+
designator U?
25 MHz C166 MCU with 32 KByte Program Memory, 11 KByte SRAM, 5 V, -40 to 125 degC, PG-MQFP-144, Reel, Green; Manufacturer: Infineon; PartNumber: SAK C167CS-4RM-CA+; A / D input lines (incl. FADC): 24; CAN Nodes: 2; Digital I/O Lines: 111; DMA Channels: 0; DSP functionality (e.g MDU/MAC): TRUE; I/O Operation Voltages: 5 V; Instruction width [bits]: 16; Max Clock Frequency: 25 MHz; Number of ADC Modules: 1; Power Modes: 3; Real Time Clock (RTC): FALSE; Timed I/O Pins (PWM-Ch,CAPCOM): 36; Timer / Counter: 9; Type of Memory: ROM; Type of Serial I/O Interfaces: USART(1), SSC(1); DatasheetVersion: Rev. 2.2; PackageVersion: V2.2, 08/2001; PackageReference: P-MQFP-144-6; PackageDescription: 144-Pin Plastic Metric Quad Flat Package, Body 28 x 28 mm, Pitch 0.65 mm; External Bus interface: TRUE; Green: TRUE; Oscillator Watchdog: TRUE; Program Memory: 32 KByte; Serial I/O Interfaces: 2; SRAM (incl. Cache): 11 KByte; Watchdog Timer: TRUE; Mounting Technology: Surface Mount; ComponentLink1Description: Manufacturer URL; ComponentLink1URL: http://www.infineon.com/; ComponentLink2Description: Datasheet; ComponentLink2URL: http://www.infineon.com/dgdl/c167cs4r_ds_v2.2_2001_08.pdf?folderId=db3a304412b407950112b408e8c90004&fileId=db3a304412b407950112b435a34b634c; ComponentLink3Description: Package Specification; ComponentLink3URL: http://www.infineon.com/dgdl/c167cs4r_ds_v2.2_2001_08.pdf?folderId=db3a304412b407950112b408e8c90004&fileId=db3a304412b407950112b435a34b634c
footprint INF-P-MQFP-144-6_N (QFP, 144-Leads, Body 28x28mm, Pitch 0.65mm, IPC Medium Density)
footprint INF-P-MQFP-144-6_L (QFP, 144-Leads, Body 28x28mm, Pitch 0.65mm, IPC High Density)
footprint INF-P-MQFP-144-6_M (QFP, 144-Leads, Body 28x28mm, Pitch 0.65mm, IPC Low Density)
part A pins: 1 P6.0/~{CS0} (io), 2 P6.1/~{CS1} (io), 3 P6.2/~{CS2} (io), 4 P6.3/~{CS3} (io), 5 P6.4/~{CS4} (io), 6 P6.5/~{HOLD} (io), 7 P6.6/~{HLDA} (io), 8 P6.7/~{BREQ} (io), 9 P8.0/CC16IO (io), 10 P8.1/CC17IO (io), 11 P8.2/CC18IO (io), 12 P8.3/CC19IO (io), 13 P8.4/CC20IO (io), 14 P8.5/CC21IO (io), 15 P8.6/CC22IO (io), 16 P8.7/CC23IO (io), 19 P7.0/POUT0 (io), 20 P7.1/POUT1 (io), 21 P7.2/POUT2 (io), 22 P7.3/POUT3 (io), 23 P7.4/CC28IO (io), 24 P7.5/CC29IO (io), 25 P7.6/CC30IO (io), 26 P7.7/CC31IO (io), 27 P5.0/AN0 (in), 28 P5.1/AN1 (in), 29 P5.2/AN2 (in), 30 P5.3/AN3 (in), 31 P5.4/AN4 (in), 32 P5.5/AN5 (in), 33 P5.6/AN6 (in), 34 P5.7/AN7 (in), 35 P5.8/AN8 (in), 36 P5.9/AN9 (in), 39 P5.10/AN10/T6EUD (in), 40 P5.11/AN11/T5EUD (in), 41 P5.12/AN12/T6IN (in), 42 P5.13/AN13/T5IN (in), 43 P5.14/AN14/T4EUD (in), 44 P5.15/AN15/T2EUD (in), 47 P2.0/CC0IO (io), 48 P2.1/CC1IO (io), 49 P2.2/CC2IO (io), 50 P2.3/CC3IO (io), 51 P2.4/CC4IO (io), 52 P2.5/CC5IO (io), 53 P2.6/CC6IO (io), 54 P2.7/CC7IO (io), 57 P2.8/CC8IO/EX0IN (io), 58 P2.9/CC9IO/EX1IN (io), 59 P2.10/CC10IO/EX2IN (io), 60 P2.11/CC11IO/EX3IN (io), 61 P2.12/CC12IO/EX4IN (io), 62 P2.13/CC13IO/EX5IN (io), 63 P2.14/CC14IO/EX6IN (io), 64 P2.15/CC15IO/EX7IN/T7IN (io), 65 P3.0/T0IN (io), 66 P3.1/T6OUT (io), 67 P3.2/CAPIN (io), 68 P3.3/T3OUT (io), 69 P3.4/T3EUD (io), 70 P3.5/T4IN (io), 73 P3.6/T3IN (io), 74 P3.7/T2IN (io), 75 P3.8/MRST (io), 76 P3.9/MTSR (io), 77 P3.10/TXD0 (io), 78 P3.11/RXD0 (io), 79 P3.12/~{BHE}/~{WRH} (io), 80 P3.13/SCLK (io), 81 P3.15/CLKOUT/FOUT (io), 85 P4.0/A16 (io), 86 P4.1/A17 (io), 87 P4.2/A18 (io), 88 P4.3/A19 (io), 89 P4.4/A20 (io), 90 P4.5/A21 (io), 91 P4.6/A22 (io), 92 P4.7/A23 (io), 100 P0L.0/AD0 (io), 101 P0L.1/AD1 (io), 102 P0L.2/AD2 (io), 103 P0L.3/AD3 (io), 104 P0L.4/AD4 (io), 105 P0L.5/AD5 (io), 106 P0L.6/AD6 (io), 107 P0L.7/AD7 (io), 108 P0H.0/AD8 (io), 111 P0H.1/AD9 (io), 112 P0H.2/AD10 (io), 113 P0H.3/AD11 (io), 114 P0H.4/AD12 (io), 115 P0H.5/AD13 (io), 116 P0H.6/AD14 (io), 117 P0H.7/AD15 (io), 118 P1L.0/A0/AN16 (io), 119 P1L.1/A1/AN17 (io), 120 P1L.2/A2/AN18 (io), 121 P1L.3/A3/AN19 (io), 122 P1L.4/A4/AN20 (io), 123 P1L.5/A5/AN21 (io), 124 P1L.6/A6/AN22 (io), 125 P1L.7/A7/AN23 (io), 128 P1H.0/A8 (io), 129 P1H.1/A9 (io), 130 P1H.2/A10 (io), 131 P1H.3/A11 (io), 132 P1H.4/A12/CC24IO (io), 133 P1H.5/A13/CC25IO (io), 134 P1H.6/A14/CC26IO (io), 135 P1H.7/A15/CC27IO (io)
part B pins: 84 NC "This pin is not connected in the C167CS.No connection to the PCB is required.", 95 ~{RD} (out) "External Memory Read Strobe. R\D\ is activated for every external instruction or data read access.", 96 ~{WR}/~{WRL} (out) "External Memory Write Strobe. In W\R\-mode this pin is activated for every external data write access. In W\R\L\-mode this pin is activated for low byte data write accesses on a 16-bit bus, and for every data write access on (See Datasheet)", 97 ~{READY} (in) "Ready Input. When the Ready function is enabled, a high level at this pin during an external memory access will force the insertion of memory cycle time waitstates until the pin returns to a low level. An internal pullup (See Datasheet)", 98 ALE (out) "Address Latch Enable Output. Can be used for latching the address into external memory or an address latch in the multiplexed bus modes.", 99 ~{EA} (in) "External Access Enable pin. A low level at this pin during and after Reset forces the C161CS to begin instruction execution out of external memory. A high level forces execution out of the internal program memory.", 137 XTAL2 "Output of the oscillator amplifier circuit.", 138 XTAL1 "Input to the oscillator amplifier and input to the internal clock generator", 140 ~{RSTIN} (io) "Reset Input with Schmitt-Trigger characteristics. A low level at this pin while the oscillator is running resets the C167CS.An internal pullup resistor permits power-on reset using only a capacitor connected to VSS.", 141 ~{RSTOUT} (out) "Internal Reset Indication Output. This pin is set to a low level when the part is executing either a hardware-, a software- or a watchdog timer reset. R\S\T\O\U\T\ remains low until the EINIT (end of initialization) (See Datasheet)", 142 ~{NMI} (in) "Non-Maskable Interrupt Input. A high to low transition at this pin causes the CPU to vector to the NMI trap routine. When the PWRDN (power down) instruction is executed, the N\M\I\ pin must be low in order to force the (See Datasheet)"
part C pins: 17 VDD (power) "Digital Supply Voltage: + 5 V or + 3 V during normal operation and idle mode. >= 2.5 V during power down mode.", 18 VSS (power) "Digital Ground.", 37 VAREF (power) "Reference voltage for the A/D converter.", 38 VAGND (power) "Reference ground for the A/D converter.", 45 VSS (power) "Digital Ground.", 46 VDD (power) "Digital Supply Voltage: + 5 V or + 3 V during normal operation and idle mode. >= 2.5 V during power down mode.", 55 VSS (power) "Digital Ground.", 56 VDD (power) "Digital Supply Voltage: + 5 V or + 3 V during normal operation and idle mode. >= 2.5 V during power down mode.", 71 VSS (power) "Digital Ground.", 72 VDD (power) "Digital Supply Voltage: + 5 V or + 3 V during normal operation and idle mode. >= 2.5 V during power down mode.", 82 VDD (power) "Digital Supply Voltage: + 5 V or + 3 V during normal operation and idle mode. >= 2.5 V during power down mode.", 83 VSS (power) "Digital Ground.", 93 VDD (power) "Digital Supply Voltage: + 5 V or + 3 V during normal operation and idle mode. >= 2.5 V during power down mode.", 94 VSS (power) "Digital Ground.", 109 VDD (power) "Digital Supply Voltage: + 5 V or + 3 V during normal operation and idle mode. >= 2.5 V during power down mode.", 110 VSS (power) "Digital Ground.", 126 VDD (power) "Digital Supply Voltage: + 5 V or + 3 V during normal operation and idle mode. >= 2.5 V during power down mode.", 127 VSS (power) "Digital Ground.", 136 VDD (power) "Digital Supply Voltage: + 5 V or + 3 V during normal operation and idle mode. >= 2.5 V during power down mode.", 139 VSS (power) "Digital Ground.", 143 VSS (power) "Digital Ground.", 144 VDD (power) "Digital Supply Voltage: + 5 V or + 3 V during normal operation and idle mode. >= 2.5 V during power down mode."

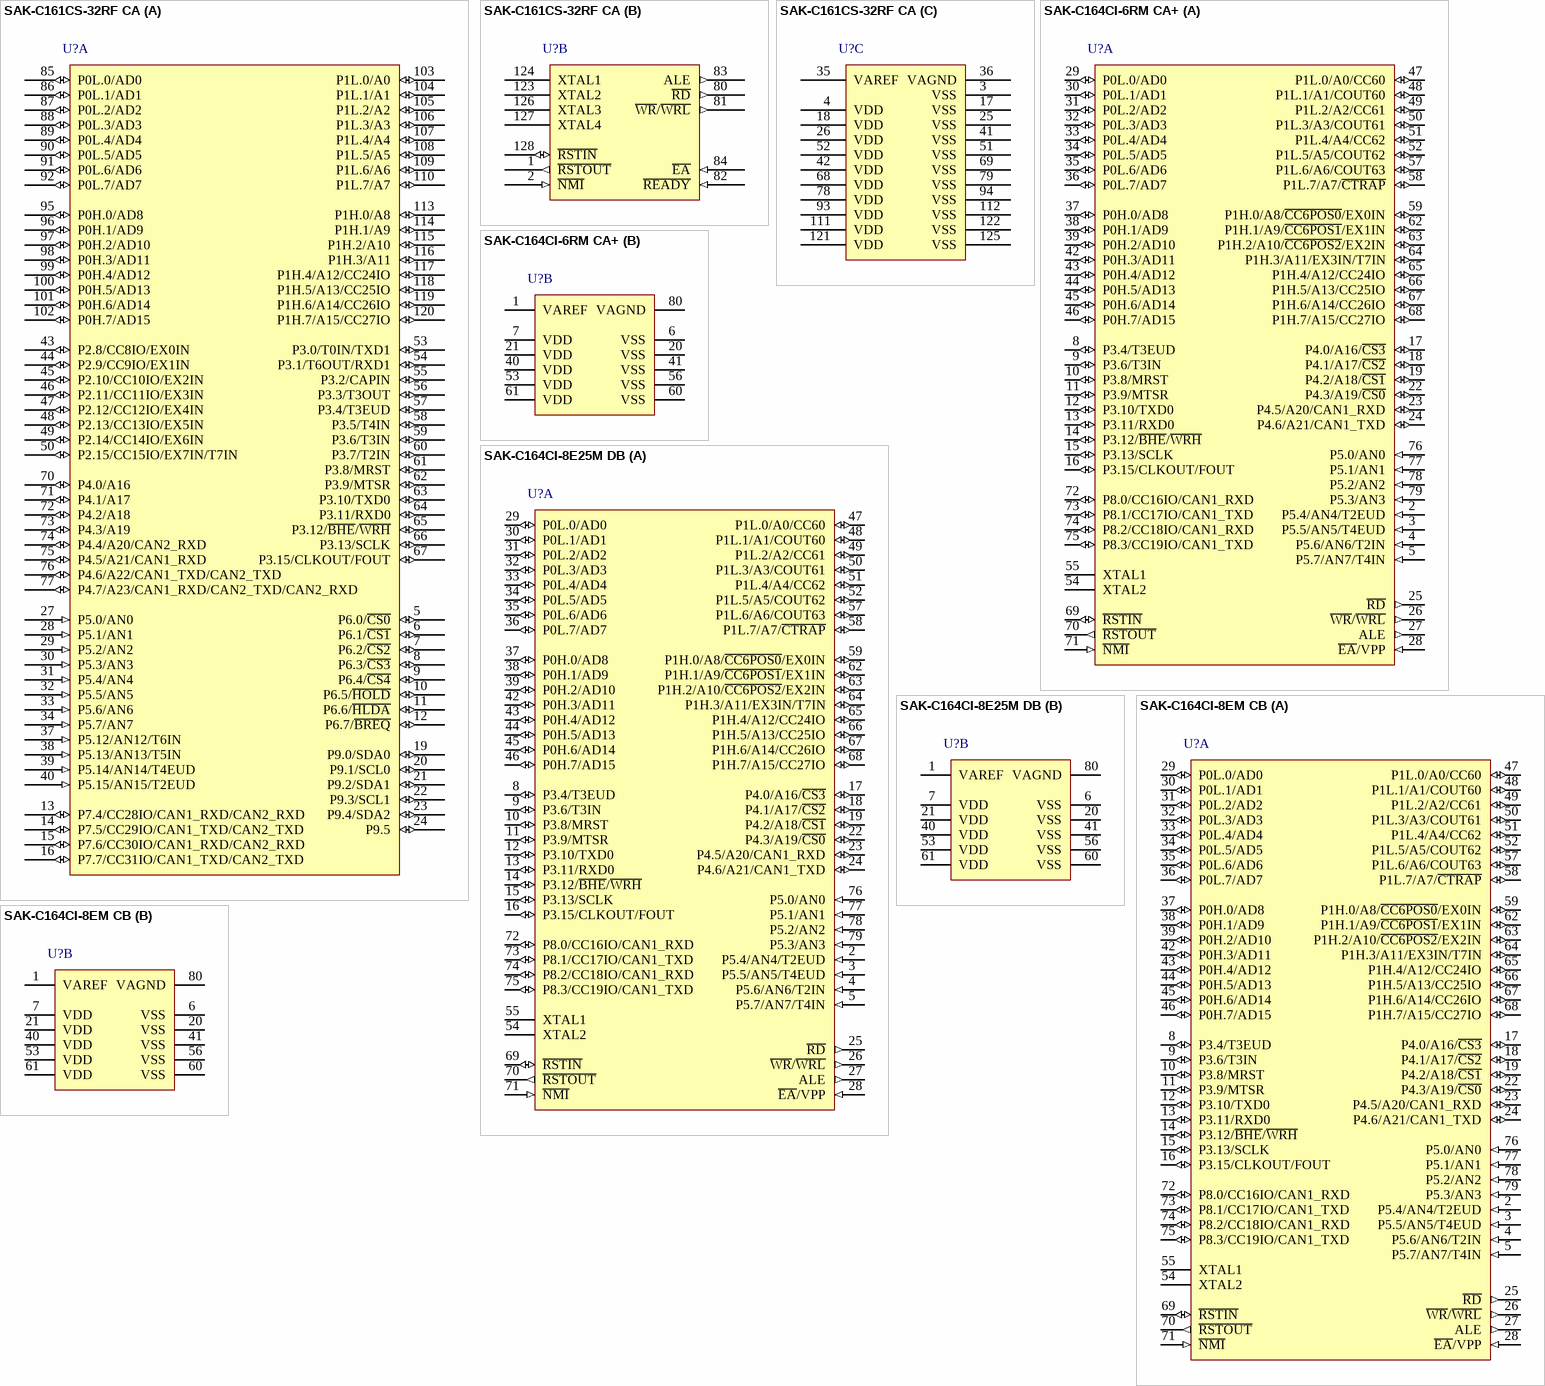
[diagram p41: symbols SAK-C161CS-32RF CA to SAK-C164CI-8EM CB]

## SAK-C161CS-32RF CA
designator U?
25 MHz C166 MCU with 256 KByte Program Memory, 10 KByte SRAM, 5 V, -40 to 125 degC, PG-TQFP-128, Reel, Green; Manufacturer: Infineon; PartNumber: SAK-C161CS-32RF CA; A / D input lines (incl. FADC): 12; CAN Nodes: 2; Digital I/O Lines: 93; DMA Channels: 0; DSP functionality (e.g MDU/MAC): TRUE; I/O Operation Voltages: 5 V; Instruction width [bits]: 16; Max Clock Frequency: 25 MHz; Number of ADC Modules: 1; Power Modes: 3; Serial I/O Interfaces: 5; Timed I/O Pins (PWM-Ch,CAPCOM): 32; Timer / Counter: 9; Type of Memory: ROM; Type of Serial I/O Interfaces: ASC(2), SSC(1), SDLM(1), J1850; DatasheetVersion: Rev. 3.0; PackageVersion: V3.0, 01/2001; PackageReference: P-TQFP-128-2; PackageDescription: 128-Pin Plastic Thin Metric Quad Flat Package, Body 20 x 20 mm, Pitch 0.5 mm; External Bus interface: TRUE; Green: TRUE; Halogen-free: available; Oscillator Watchdog: TRUE; Program Memory: 256 KByte; Real Time Clock (RTC): TRUE; SRAM (incl. Cache): 10 KByte; Watchdog Timer: TRUE; Mounting Technology: Surface Mount; ComponentLink1Description: Manufacturer URL; ComponentLink1URL: http://www.infineon.com/; ComponentLink2Description: Datasheet; ComponentLink2URL: http://www.infineon.com/dgdl/c161csr_ds_v3.0_2001_01.pdf?folderId=db3a304412b407950112b408e8c90004&fileId=db3a304412b407950112b41e4b55323c; ComponentLink3Description: Package Specification; ComponentLink3URL: http://www.infineon.com/dgdl/c161csr_ds_v3.0_2001_01.pdf?folderId=db3a304412b407950112b408e8c90004&fileId=db3a304412b407950112b41e4b55323c&sId=db3a30443d98b7f0013d9b91940e02a9
footprint INF-P-TQFP-128-2_N (QFP, 128-Leads, Body 20x20mm, Pitch 0.5mm, IPC Medium Density)
footprint INF-P-TQFP-128-2_L (QFP, 128-Leads, Body 20x20mm, Pitch 0.5mm, IPC High Density)
footprint INF-P-TQFP-128-2_M (QFP, 128-Leads, Body 20x20mm, Pitch 0.5mm, IPC Low Density)
part A pins: 5 P6.0/~{CS0} (io), 6 P6.1/~{CS1} (io), 7 P6.2/~{CS2} (io), 8 P6.3/~{CS3} (io), 9 P6.4/~{CS4} (io), 10 P6.5/~{HOLD} (io), 11 P6.6/~{HLDA} (io), 12 P6.7/~{BREQ} (io), 13 P7.4/CC28IO/CAN1_RXD/CAN2_RXD (io), 14 P7.5/CC29IO/CAN1_TXD/CAN2_TXD (io), 15 P7.6/CC30IO/CAN1_RXD/CAN2_RXD (io), 16 P7.7/CC31IO/CAN1_TXD/CAN2_TXD (io), 19 P9.0/SDA0 (io), 20 P9.1/SCL0 (io), 21 P9.2/SDA1 (io), 22 P9.3/SCL1 (io), 23 P9.4/SDA2 (io), 24 P9.5 (io), 27 P5.0/AN0 (in), 28 P5.1/AN1 (in), 29 P5.2/AN2 (in), 30 P5.3/AN3 (in), 31 P5.4/AN4 (in), 32 P5.5/AN5 (in), 33 P5.6/AN6 (in), 34 P5.7/AN7 (in), 37 P5.12/AN12/T6IN (in), 38 P5.13/AN13/T5IN (in), 39 P5.14/AN14/T4EUD (in), 40 P5.15/AN15/T2EUD (in), 43 P2.8/CC8IO/EX0IN (io), 44 P2.9/CC9IO/EX1IN (io), 45 P2.10/CC10IO/EX2IN (io), 46 P2.11/CC11IO/EX3IN (io), 47 P2.12/CC12IO/EX4IN (io), 48 P2.13/CC13IO/EX5IN (io), 49 P2.14/CC14IO/EX6IN (io), 50 P2.15/CC15IO/EX7IN/T7IN (io), 53 P3.0/T0IN/TXD1 (io), 54 P3.1/T6OUT/RXD1 (io), 55 P3.2/CAPIN (io), 56 P3.3/T3OUT (io), 57 P3.4/T3EUD (io), 58 P3.5/T4IN (io), 59 P3.6/T3IN (io), 60 P3.7/T2IN (io), 61 P3.8/MRST (io), 62 P3.9/MTSR (io), 63 P3.10/TXD0 (io), 64 P3.11/RXD0 (io), 65 P3.12/~{BHE}/~{WRH} (io), 66 P3.13/SCLK (io), 67 P3.15/CLKOUT/FOUT (io), 70 P4.0/A16 (io), 71 P4.1/A17 (io), 72 P4.2/A18 (io), 73 P4.3/A19 (io), 74 P4.4/A20/CAN2_RXD (io), 75 P4.5/A21/CAN1_RXD (io), 76 P4.6/A22/CAN1_TXD/CAN2_TXD (io), 77 P4.7/A23/CAN1_RXD/CAN2_TXD/CAN2_RXD (io), 85 P0L.0/AD0 (io), 86 P0L.1/AD1 (io), 87 P0L.2/AD2 (io), 88 P0L.3/AD3 (io), 89 P0L.4/AD4 (io), 90 P0L.5/AD5 (io), 91 P0L.6/AD6 (io), 92 P0L.7/AD7 (io), 95 P0H.0/AD8 (io), 96 P0H.1/AD9 (io), 97 P0H.2/AD10 (io), 98 P0H.3/AD11 (io), 99 P0H.4/AD12 (io), 100 P0H.5/AD13 (io), 101 P0H.6/AD14 (io), 102 P0H.7/AD15 (io), 103 P1L.0/A0 (io), 104 P1L.1/A1 (io), 105 P1L.2/A2 (io), 106 P1L.3/A3 (io), 107 P1L.4/A4 (io), 108 P1L.5/A5 (io), 109 P1L.6/A6 (io), 110 P1L.7/A7 (io), 113 P1H.0/A8 (io), 114 P1H.1/A9 (io), 115 P1H.2/A10 (io), 116 P1H.3/A11 (io), 117 P1H.4/A12/CC24IO (io), 118 P1H.5/A13/CC25IO (io), 119 P1H.6/A14/CC26IO (io), 120 P1H.7/A15/CC27IO (io)
part B pins: 1 ~{RSTOUT} (out) "Internal Reset Indication Output. This pin is set to a low level  when the part is executing either a hardware-, a software- or  a watchdog timer reset. R\S\T\O\U\T\ remains low until the EINIT  (end of initialization) (See Datasheet)", 2 ~{NMI} (in) "Non-Maskable Interrupt Input. A high to low transition at this pin causes the CPU to vector to the NMI,trap routine. When the PWRDN (power down) instruction is executed, the N\M\I\ pin must be low in order to force the (See Datasheet)", 80 ~{RD} (out) "External Memory Read Strobe. R\D\ is activated for every external instruction or data read access.", 81 ~{WR}/~{WRL} (out) "External Memory Write Strobe. In W\R\-mode this pin is activated for every external data write access. In W\R\L\-mode this pin is activated for low byte data write accesses on a 16-bit bus, and for every data write access on (See Datasheet)", 82 ~{READY} (in) "Ready Input. When the Ready function is enabled, a high level at this pin during an external memory access will force the insertion of memory cycle time waitstates until the pin returns to a low level. An internal pullup (See Datasheet)", 83 ALE (out) "Address Latch Enable Output. Can be used for latching the address into external memory or an address latch in the multiplexed bus modes.", 84 ~{EA} (in) "External Access Enable pin. A low level at this pin during and after Reset forces the C161CS/JC/JI to begin instruction execution out of external memory. A high level forces execution out of the internal program memory. (See Datasheet)", 123 XTAL2 "Output of the oscillator amplifier circuit.", 124 XTAL1 "Input to the oscillator amplifier and input to the internal clock generator", 126 XTAL3 "Input to the 32-kHz oscillator amplifier and input to the internal clock generator", 127 XTAL4 "Output of the oscillator amplifier circuit.", 128 ~{RSTIN} (io) "Reset Input with Schmitt-Trigger characteristics. A low level at this pin while the oscillator is running resets the C161CS/JC/JI. An internal pullup resistor permits power-on reset using only a capacitor connected to VSS."
part C pins: 3 VSS (power) "Digital Ground.", 4 VDD (power) "Digital Supply Voltage", 17 VSS (power) "Digital Ground.", 18 VDD (power) "Digital Supply Voltage", 25 VSS (power) "Digital Ground.", 26 VDD (power) "Digital Supply Voltage", 35 VAREF (power) "Reference voltage for the A/D converter.", 36 VAGND (power) "Reference ground for the A/D converter.", 41 VSS (power) "Digital Ground.", 42 VDD (power) "Digital Supply Voltage", 51 VSS (power) "Digital Ground.", 52 VDD (power) "Digital Supply Voltage", 68 VDD (power) "Digital Supply Voltage", 69 VSS (power) "Digital Ground.", 78 VDD (power) "Digital Supply Voltage", 79 VSS (power) "Digital Ground.", 93 VDD (power) "Digital Supply Voltage", 94 VSS (power) "Digital Ground.", 111 VDD (power) "Digital Supply Voltage", 112 VSS (power) "Digital Ground.", 121 VDD (power) "Digital Supply Voltage", 122 VSS (power) "Digital Ground.", 125 VSS (power) "Digital Ground."

## SAK-C164CI-6RM CA+
designator U?
20 MHz C166 MCU with 48 KByte Program Memory, 4 KByte SRAM, 5 V, -40 to 125 degC, PG-MQFP-80, Green; Manufacturer: Infineon; PartNumber: SAK-C164CI-6RM CA+; A / D input lines (incl. FADC): 8; CAN Nodes: 1; Digital I/O Lines: 59; DMA Channels: 0; DSP functionality (e.g MDU/MAC): TRUE; I/O Operation Voltages: 5V; Instruction width [bits]: 16; Max Clock Frequency: 20 MHz; Power Modes: 3; Serial I/O Interfaces: 2; SRAM (incl. Cache): 4 KByte; Timed I/O Pins (PWM-Ch,CAPCOM): 12; Timer / Counter: 5; Type of Memory: ROM; Type of Serial I/O Interfaces: ASC(1), SSC(1); DatasheetVersion: Rev. 2.0; PackageVersion: V2.0, 05/2001; PackageReference: P-MQFP-80-7; PackageDescription: 80-Pin Plastic Metric Quad Flat Package, Body 14 x 14 mm, Pitch 0.65 mm; External Bus interface: TRUE; Green: TRUE; Number of ADC Modules: 1; Oscillator Watchdog: TRUE; Program Memory: 48 KByte; Real Time Clock (RTC): TRUE; Watchdog Timer: TRUE; Mounting Technology: Surface Mount; ComponentLink1Description: Manufacturer URL; ComponentLink1URL: http://www.infineon.com/; ComponentLink2Description: Datasheet; ComponentLink2URL: http://www.infineon.com/dgdl/c164ci_ds_v2.0_2001_05_1.pdf?folderId=db3a304412b407950112b408e8c90004&fileId=db3a304412b407950112b41e161331d0; ComponentLink3Description: Package Specification; ComponentLink3URL: http://www.infineon.com/dgdl/c164ci_ds_v2.0_2001_05_1.pdf?folderId=db3a304412b407950112b408e8c90004&fileId=db3a304412b407950112b41e161331d0&sId=db3a30433d956bc3013d9b13f66314ac
footprint INF-P-MQFP-80-7_N (QFP, 80-Leads, Body 14x14mm, Pitch 0.65mm, IPC Medium Density)
footprint INF-P-MQFP-80-7_L (QFP, 80-Leads, Body 14x14mm, Pitch 0.65mm, IPC High Density)
footprint INF-P-MQFP-80-7_M (QFP, 80-Leads, Body 14x14mm, Pitch 0.65mm, IPC Low Density)
part A pins: 2 P5.4/AN4/T2EUD (in), 3 P5.5/AN5/T4EUD (in), 4 P5.6/AN6/T2IN (in), 5 P5.7/AN7/T4IN (in), 8 P3.4/T3EUD (io), 9 P3.6/T3IN (io), 10 P3.8/MRST (io), 11 P3.9/MTSR (io), 12 P3.10/TXD0 (io), 13 P3.11/RXD0 (io), 14 P3.12/~{BHE}/~{WRH} (io), 15 P3.13/SCLK (io), 16 P3.15/CLKOUT/FOUT (io), 17 P4.0/A16/~{CS3} (io), 18 P4.1/A17/~{CS2} (io), 19 P4.2/A18/~{CS1} (io), 22 P4.3/A19/~{CS0} (io), 23 P4.5/A20/CAN1_RXD (io), 24 P4.6/A21/CAN1_TXD (io), 25 ~{RD} (out) "External Memory Read Strobe. R\D\ is activated for every external instruction or data read access.", 26 ~{WR}/~{WRL} (out) "External Memory Write Strobe. In W\R\-mode this pin is activated for every external data write access. In W\R\L\-mode this pin is activated for low byte data write accesses on a 16-bit bus, and for every data write access on (See Datasheet)", 27 ALE (out) "Address Latch Enable Output. Can be used for latching the address into external memory or an address latch in the multiplexed bus modes.", 28 ~{EA}/VPP (in), 29 P0L.0/AD0 (io), 30 P0L.1/AD1 (io), 31 P0L.2/AD2 (io), 32 P0L.3/AD3 (io), 33 P0L.4/AD4 (io), 34 P0L.5/AD5 (io), 35 P0L.6/AD6 (io), 36 P0L.7/AD7 (io), 37 P0H.0/AD8 (io), 38 P0H.1/AD9 (io), 39 P0H.2/AD10 (io), 42 P0H.3/AD11 (io), 43 P0H.4/AD12 (io), 44 P0H.5/AD13 (io), 45 P0H.6/AD14 (io), 46 P0H.7/AD15 (io), 47 P1L.0/A0/CC60 (io), 48 P1L.1/A1/COUT60 (io), 49 P1L.2/A2/CC61 (io), 50 P1L.3/A3/COUT61 (io), 51 P1L.4/A4/CC62 (io), 52 P1L.5/A5/COUT62 (io), 54 XTAL2 "Output of the oscillator amplifier circuit.", 55 XTAL1 "Input to the oscillator amplifier and input to the internal clock generator", 57 P1L.6/A6/COUT63 (io), 58 P1L.7/A7/~{CTRAP} (io), 59 P1H.0/A8/~{CC6POS0}/EX0IN (io), 62 P1H.1/A9/~{CC6POS1}/EX1IN (io), 63 P1H.2/A10/~{CC6POS2}/EX2IN (io), 64 P1H.3/A11/EX3IN/T7IN (io), 65 P1H.4/A12/CC24IO (io), 66 P1H.5/A13/CC25IO (io), 67 P1H.6/A14/CC26IO (io), 68 P1H.7/A15/CC27IO (io), 69 ~{RSTIN} (io) "Reset Input with Schmitt-Trigger characteristics. A low level at this pin while the oscillator is running resets the C164CI. An internal pullup resistor permits power-on reset using only a capacitor connected to VSS. A spike (See Datasheet)", 70 ~{RSTOUT} (out) "Internal Reset Indication Output. This pin is set to a low level when the part is executing either a hardware-, a software- or a watchdog timer reset. R\S\T\O\U\T\ remains low until the EINIT (end of initialization) (See Datasheet)", 71 ~{NMI} (in) "Non-Maskable Interrupt Input. A high to low transition at this pin causes the CPU to vector to the NMI trap routine. When the PWRDN (power down) instruction is executed, the N\M\I\ pin must be low in order to force the (See Datasheet)", 72 P8.0/CC16IO/CAN1_RXD (io), 73 P8.1/CC17IO/CAN1_TXD (io), 74 P8.2/CC18IO/CAN1_RXD (io), 75 P8.3/CC19IO/CAN1_TXD (io), 76 P5.0/AN0 (in), 77 P5.1/AN1 (in), 78 P5.2/AN2 (in), 79 P5.3/AN3 (in)
part B pins: 1 VAREF (power) "Reference voltage for the A/D converter.", 6 VSS (power) "Digital Ground.", 7 VDD (power) "Digital Supply Voltage: +5 V during normal operation and idle mode. >=2.5 V during power down mode.", 20 VSS (power) "Digital Ground.", 21 VDD (power) "Digital Supply Voltage: +5 V during normal operation and idle mode. >=2.5 V during power down mode.", 40 VDD (power) "Digital Supply Voltage: +5 V during normal operation and idle mode. >=2.5 V during power down mode.", 41 VSS (power) "Digital Ground.", 53 VDD (power) "Digital Supply Voltage: +5 V during normal operation and idle mode. >=2.5 V during power down mode.", 56 VSS (power) "Digital Ground.", 60 VSS (power) "Digital Ground.", 61 VDD (power) "Digital Supply Voltage: +5 V during normal operation and idle mode. >=2.5 V during power down mode.", 80 VAGND (power) "Reference ground for the A/D converter."

## SAK-C164CI-8E25M DB
designator U?
25 MHz C166 MCU with 64 KByte Program Memory, 4 KByte SRAM, 5 V, -40 to 125 degC, PG-MQFP-80, Reel, Green; Manufacturer: Infineon; PartNumber: SAK-C164CI-8E25M DB; A / D input lines (incl. FADC): 8; CAN Nodes: 1; Digital I/O Lines: 59; DMA Channels: 0; DSP functionality (e.g MDU/MAC): TRUE; I/O Operation Voltages: 5V; Instruction width [bits]: 16; Max Clock Frequency: 25 MHz; Power Modes: 3; Serial I/O Interfaces: 2; SRAM (incl. Cache): 4 KByte; Timed I/O Pins (PWM-Ch,CAPCOM): 12; Timer / Counter: 5; Type of Memory: OTP; Type of Serial I/O Interfaces: ASC(1), SSC(1); DatasheetVersion: Rev. 2.0; PackageVersion: V2.0, 05/2001; PackageReference: P-MQFP-80-7; PackageDescription: 80-Pin Plastic Metric Quad Flat Package, Body 14 x 14 mm, Pitch 0.65 mm; Supplier 1: Digi-Key; Supplier Part Number 1: SAK-C164CI-8E25MDBIN-ND; External Bus interface: TRUE; Green: TRUE; Halogen-free: TRUE; Number of ADC Modules: 1; Oscillator Watchdog: TRUE; Packing: Reel; Program Memory: 64 KByte; Real Time Clock (RTC): TRUE; Watchdog Timer: TRUE; Mounting Technology: Surface Mount; ComponentLink1Description: Manufacturer URL; ComponentLink1URL: http://www.infineon.com/; ComponentLink2Description: Datasheet; ComponentLink2URL: http://www.infineon.com/dgdl/c164ci_ds_v2.0_2001_05_1.pdf?folderId=db3a304412b407950112b408e8c90004&fileId=db3a304412b407950112b41e161331d0; ComponentLink3Description: Package Specification; ComponentLink3URL: http://www.infineon.com/dgdl/c164ci_ds_v2.0_2001_05_1.pdf?folderId=db3a304412b407950112b408e8c90004&fileId=db3a304412b407950112b41e161331d0&sId=db3a30433d956bc3013d9b13f66314ac
footprint INF-P-MQFP-80-7_N (QFP, 80-Leads, Body 14x14mm, Pitch 0.65mm, IPC Medium Density)
footprint INF-P-MQFP-80-7_L (QFP, 80-Leads, Body 14x14mm, Pitch 0.65mm, IPC High Density)
footprint INF-P-MQFP-80-7_M (QFP, 80-Leads, Body 14x14mm, Pitch 0.65mm, IPC Low Density)
part A pins: 2 P5.4/AN4/T2EUD (in), 3 P5.5/AN5/T4EUD (in), 4 P5.6/AN6/T2IN (in), 5 P5.7/AN7/T4IN (in), 8 P3.4/T3EUD (io), 9 P3.6/T3IN (io), 10 P3.8/MRST (io), 11 P3.9/MTSR (io), 12 P3.10/TXD0 (io), 13 P3.11/RXD0 (io), 14 P3.12/~{BHE}/~{WRH} (io), 15 P3.13/SCLK (io), 16 P3.15/CLKOUT/FOUT (io), 17 P4.0/A16/~{CS3} (io), 18 P4.1/A17/~{CS2} (io), 19 P4.2/A18/~{CS1} (io), 22 P4.3/A19/~{CS0} (io), 23 P4.5/A20/CAN1_RXD (io), 24 P4.6/A21/CAN1_TXD (io), 25 ~{RD} (out) "External Memory Read Strobe. R\D\ is activated for every external instruction or data read access.", 26 ~{WR}/~{WRL} (out) "External Memory Write Strobe. In W\R\-mode this pin is activated for every external data write access. In W\R\L\-mode this pin is activated for low byte data write accesses on a 16-bit bus, and for every data write access on (See Datasheet)", 27 ALE (out) "Address Latch Enable Output. Can be used for latching the address into external memory or an address latch in the multiplexed bus modes.", 28 ~{EA}/VPP (in), 29 P0L.0/AD0 (io), 30 P0L.1/AD1 (io), 31 P0L.2/AD2 (io), 32 P0L.3/AD3 (io), 33 P0L.4/AD4 (io), 34 P0L.5/AD5 (io), 35 P0L.6/AD6 (io), 36 P0L.7/AD7 (io), 37 P0H.0/AD8 (io), 38 P0H.1/AD9 (io), 39 P0H.2/AD10 (io), 42 P0H.3/AD11 (io), 43 P0H.4/AD12 (io), 44 P0H.5/AD13 (io), 45 P0H.6/AD14 (io), 46 P0H.7/AD15 (io), 47 P1L.0/A0/CC60 (io), 48 P1L.1/A1/COUT60 (io), 49 P1L.2/A2/CC61 (io), 50 P1L.3/A3/COUT61 (io), 51 P1L.4/A4/CC62 (io), 52 P1L.5/A5/COUT62 (io), 54 XTAL2 "Output of the oscillator amplifier circuit.", 55 XTAL1 "Input to the oscillator amplifier and input to the internal clock generator.", 57 P1L.6/A6/COUT63 (io), 58 P1L.7/A7/~{CTRAP} (io), 59 P1H.0/A8/~{CC6POS0}/EX0IN (io), 62 P1H.1/A9/~{CC6POS1}/EX1IN (io), 63 P1H.2/A10/~{CC6POS2}/EX2IN (io), 64 P1H.3/A11/EX3IN/T7IN (io), 65 P1H.4/A12/CC24IO (io), 66 P1H.5/A13/CC25IO (io), 67 P1H.6/A14/CC26IO (io), 68 P1H.7/A15/CC27IO (io), 69 ~{RSTIN} (io) "Reset Input with Schmitt-Trigger characteristics. A low level at this pin while the oscillator is running resets the C164CI. An internal pullup resistor permits power-on reset using only a capacitor connected to VSS. A spike (See Datasheet)", 70 ~{RSTOUT} (out) "Internal Reset Indication Output. This pin is set to a low level when the part is executing either a hardware-, a software- or a watchdog timer reset. R\S\T\O\U\T\ remains low until the EINIT (end of initialization) (See Datasheet)", 71 ~{NMI} (in) "Non-Maskable Interrupt Input. A high to low transition at this pin causes the CPU to vector to the NMI trap routine. When the PWRDN (power down) instruction is executed, the N\M\I\ pin must be low in order to force the (See Datasheet)", 72 P8.0/CC16IO/CAN1_RXD (io), 73 P8.1/CC17IO/CAN1_TXD (io), 74 P8.2/CC18IO/CAN1_RXD (io), 75 P8.3/CC19IO/CAN1_TXD (io), 76 P5.0/AN0 (in), 77 P5.1/AN1 (in), 78 P5.2/AN2 (in), 79 P5.3/AN3 (in)
part B pins: 1 VAREF (power) "Reference voltage for the A/D converter.", 6 VSS (power) "Digital Ground.", 7 VDD (power) "Digital Supply Voltage: +5 V during normal operation and idle mode. >=2.5 V during power down mode.", 20 VSS (power) "Digital Ground.", 21 VDD (power) "Digital Supply Voltage: +5 V during normal operation and idle mode. >=2.5 V during power down mode.", 40 VDD (power) "Digital Supply Voltage: +5 V during normal operation and idle mode. >=2.5 V during power down mode.", 41 VSS (power) "Digital Ground.", 53 VDD (power) "Digital Supply Voltage: +5 V during normal operation and idle mode. >=2.5 V during power down mode.", 56 VSS (power) "Digital Ground.", 60 VSS (power) "Digital Ground.", 61 VDD (power) "Digital Supply Voltage: +5 V during normal operation and idle mode. >=2.5 V during power down mode.", 80 VAGND (power) "Reference ground for the A/D converter."